# Altium footprint library SMA HF Connectors.PcbLib: 2 footprints
Each footprint in its own frame and in the unit in brackets; x right, y up, seen from the top. Pads: shape width x height; smd on the part's side, far side on the other; paste and mask are expansions set on the pad; w line width, h text height; cw(c..) or ccw(c..) is an arc to the next point about the centre after c.
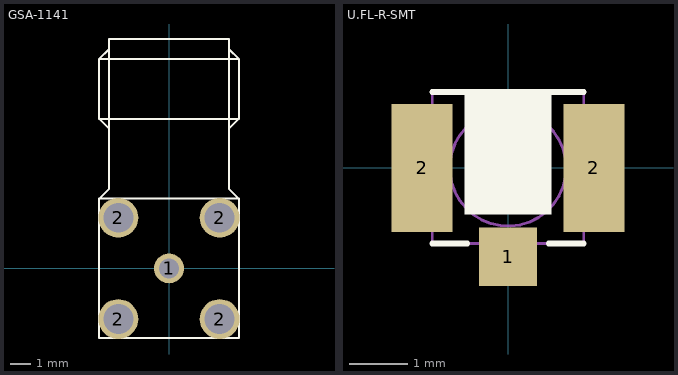
[diagram p0: the footprints below, top view; thin cyan lines are the x and y axes]

## GSA-1141 [mm] "SMA Female angle connector"
height 10
pads (5):
  round 1.5 hole 1: 1(0,0)
  round 2 hole 1.5: 2(-2.54,-2.54) 2(-2.54,2.54) 2(2.54,-2.54) 2(2.54,2.54)
Top Overlay:
  lines w0.1: -3,7 -3.5,7.5 ; -3,11 -3.5,10.5 ; 3,7 3.5,7.5 ; 3,11 3.5,10.5 ; -3.5,3.5 -3,4 -3,11.5 3,11.5 3,4 3.5,3.5 ; -3.5,3.5 3.5,3.5 ; -3.5,3.5 -3.5,-3.5 3.5,-3.5 3.5,3.5 ; -3.5,7.5 3.5,7.5 ; -3.5,7.5 -3.5,7.5 ; -3.5,7.5 -3.5,10.5 ; -3.5,10.5 3.5,10.5 ; 3.5,7.5 3.5,10.5

## U.FL-R-SMT [mm]
height 1.25
pads (3):
  rect 1x1 smd: 1(0,-1.525)
  rect 1.05x2.2 smd: 2(-1.475,0) 2(1.475,0)
Top Overlay:
  rectangle: -0.75,-0.8 0.75,1.3
  lines w0.1: -1.3,-1.3 -0.7,-1.3 ; -1.3,1.3 1.3,1.3 ; 0.7,-1.3 1.3,-1.3
Mechanical 13:
  circle w0.05: c0,0 r1
  lines w0.05: -1.3,-1.3 1.3,-1.3 1.3,1.3 -1.3,1.3 -1.3,-1.3